# Altium footprint library S4BPHSM4TBLFSN.PcbLib: 1 footprints
Each footprint in its own frame and in the unit in brackets; x right, y up, seen from the top. Pads: shape width x height; smd on the part's side, far side on the other; paste and mask are expansions set on the pad; w line width, h text height; cw(c..) or ccw(c..) is an arc to the next point about the centre after c.
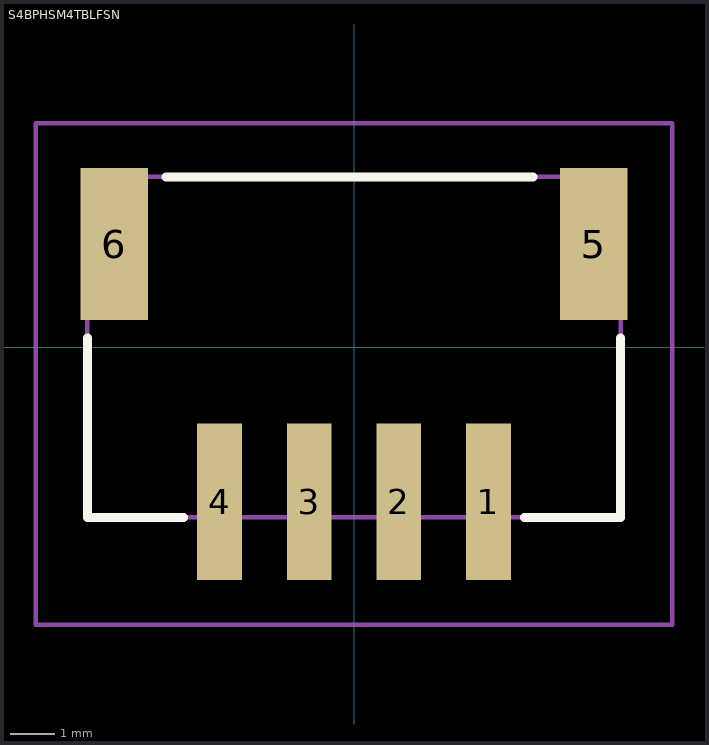
[diagram p0: the footprint, top view; thin cyan lines are the x and y axes]

## S4BPHSM4TBLFSN [mm]
pads (6):
  rect 1x3.5 smd: 1(3,-3.45) 2(1,-3.45) 3(-1,-3.45) 4(-3,-3.45)
  rect 1.5x3.4 smd: 5(5.35,2.3) 6(-5.35,2.3)
Top Overlay:
  lines w0.2: -5.95,0.2 -5.95,-3.8 -3.8,-3.8 ; -4.2,3.8 4,3.8 ; 3.8,-3.8 5.95,-3.8 5.95,0.2
Mechanical 15:
  lines w0.1: -5.95,-3.8 -5.95,3.8 5.95,3.8 5.95,-3.8 -5.95,-3.8
Mechanical 20:
  lines w0.1: -7.1,-6.2 -7.1,5 7.1,5 7.1,-6.2 -7.1,-6.2
3D body "S4B-PH-SM4-TB__LF__SN_.stp.STEP": height 5.5, standoff -0.1, extent -6.039,-4.69 5.861,3.91